# EAGLE library part PIC24FJ64GA002-X/SO (library holter)
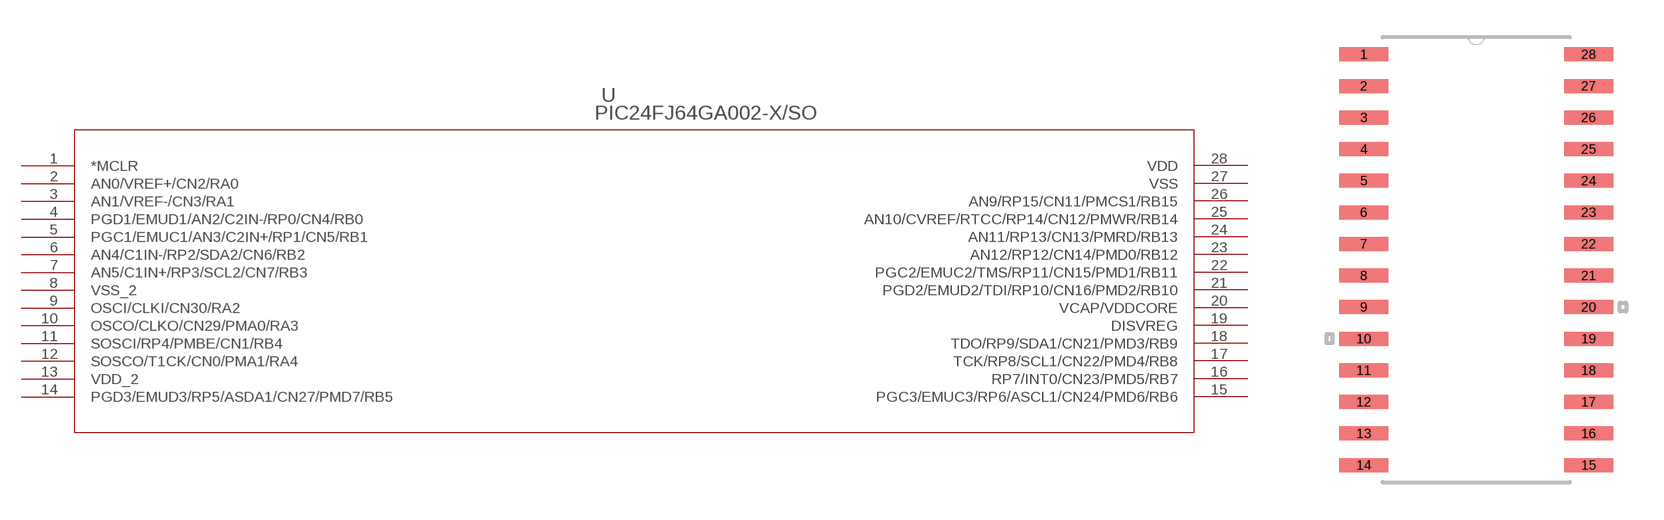
[diagram p2: symbol with the pads of SOIC28-W_MC; footprint SOIC28-W_MC]

Designator prefix -

## PIC24FJ64GA002-X/SO  [SOIC28-W_MC]
1  *MCLR  pas
2  AN0/VREF+/CN2/RA0  pas
3  AN1/VREF-/CN3/RA1  pas
4  PGD1/EMUD1/AN2/C2IN-/RP0/CN4/RB0  pas
5  PGC1/EMUC1/AN3/C2IN+/RP1/CN5/RB1  pas
6  AN4/C1IN-/RP2/SDA2/CN6/RB2  pas
7  AN5/C1IN+/RP3/SCL2/CN7/RB3  pas
8  VSS_2  pas
9  OSCI/CLKI/CN30/RA2  pas
10  OSCO/CLKO/CN29/PMA0/RA3  pas
11  SOSCI/RP4/PMBE/CN1/RB4  pas
12  SOSCO/T1CK/CN0/PMA1/RA4  pas
13  VDD_2  pas
14  PGD3/EMUD3/RP5/ASDA1/CN27/PMD7/RB5  pas
15  PGC3/EMUC3/RP6/ASCL1/CN24/PMD6/RB6  pas
16  RP7/INT0/CN23/PMD5/RB7  pas
17  TCK/RP8/SCL1/CN22/PMD4/RB8  pas
18  TDO/RP9/SDA1/CN21/PMD3/RB9  pas
19  DISVREG  pas
20  VCAP/VDDCORE  pas
21  PGD2/EMUD2/TDI/RP10/CN16/PMD2/RB10  pas
22  PGC2/EMUC2/TMS/RP11/CN15/PMD1/RB11  pas
23  AN12/RP12/CN14/PMD0/RB12  pas
24  AN11/RP13/CN13/PMRD/RB13  pas
25  AN10/CVREF/RTCC/RP14/CN12/PMWR/RB14  pas
26  AN9/RP15/CN11/PMCS1/RB15  pas
27  VSS  pas
28  VDD  pas

## Footprint SOIC28-W_MC (pad centres in mm)
smd 1.981 x 0.559: 1 -4.515,8.255; 2 -4.515,6.985; 3 -4.515,5.715; 4 -4.515,4.445; 5 -4.515,3.175; 6 -4.515,1.905; 7 -4.515,0.635; 8 -4.515,-0.635; 9 -4.515,-1.905; 10 -4.515,-3.175; 11 -4.515,-4.445; 12 -4.515,-5.715; 13 -4.515,-6.985; 14 -4.515,-8.255; 15 4.515,-8.255; 16 4.515,-6.985; 17 4.515,-5.715; 18 4.515,-4.445; 19 4.515,-3.175; 20 4.515,-1.905; 21 4.515,-0.635; 22 4.515,0.635; 23 4.515,1.905; 24 4.515,3.175; 25 4.515,4.445; 26 4.515,5.715; 27 4.515,6.985; 28 4.515,8.255